# EAGLE library part TI_SWITCH_TPS24750 (library DubSat1 Components)
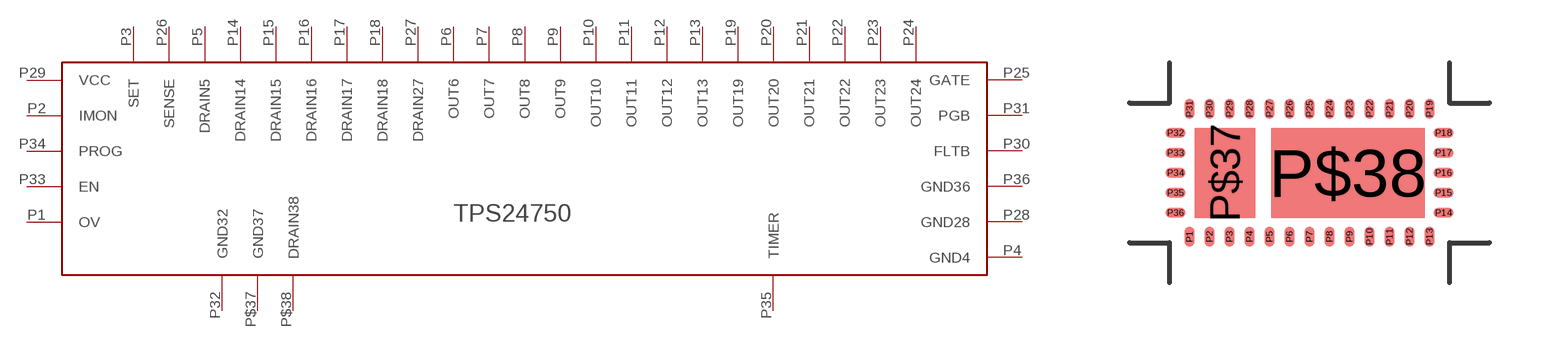
[diagram p14: symbol with the pads of QFN-36; footprint QFN-36]

Designator prefix -

## TI_SWITCH_TPS24750  [QFN-36]
P1  OV
P2  IMON
P3  SET
P4  GND4
P5  DRAIN5
P6  OUT6
P7  OUT7
P8  OUT8
P9  OUT9
P10  OUT10
P11  OUT11
P12  OUT12
P13  OUT13
P14  DRAIN14
P15  DRAIN15
P16  DRAIN16
P17  DRAIN17
P18  DRAIN18
P19  OUT19
P20  OUT20
P21  OUT21
P22  OUT22
P23  OUT23
P24  OUT24
P25  GATE
P26  SENSE
P27  DRAIN27
P28  GND28
P29  VCC
P30  FLTB
P31  PGB
P32  GND32
P33  EN
P34  PROG
P35  TIMER
P36  GND36
P$37  GND37
P$38  DRAIN38

## Footprint QFN-36 (pad centres in mm)
smd 0.24 x 0.5: P1 -3,-1.6; P2 -2.5,-1.6; P3 -2,-1.6; P4 -1.5,-1.6; P5 -1,-1.6; P6 -0.5,-1.6; P7 0,-1.6; P8 0.5,-1.6; P9 1,-1.6; P10 1.5,-1.6; P11 2,-1.6; P12 2.5,-1.6; P13 3,-1.6; P19 3,1.6; P20 2.5,1.6; P21 2,1.6; P22 1.5,1.6; P23 1,1.6; P24 0.5,1.6; P25 0,1.6; P26 -0.5,1.6; P27 -1,1.6; P28 -1.5,1.6; P29 -2,1.6; P30 -2.5,1.6; P31 -3,1.6
smd 0.5 x 0.24: P14 3.35,-1; P15 3.35,-0.5; P16 3.35,0; P17 3.35,0.5; P18 3.35,1; P32 -3.35,1; P33 -3.35,0.5; P34 -3.35,0; P35 -3.35,-0.5; P36 -3.35,-1
smd 1.514 x 2.25: P$37 -2.118,0
smd 3.836 x 2.25: P$38 0.957,0